# Altium integrated library Maxim Sensors.IntLib: 1171 symbols (part 19 of 61)
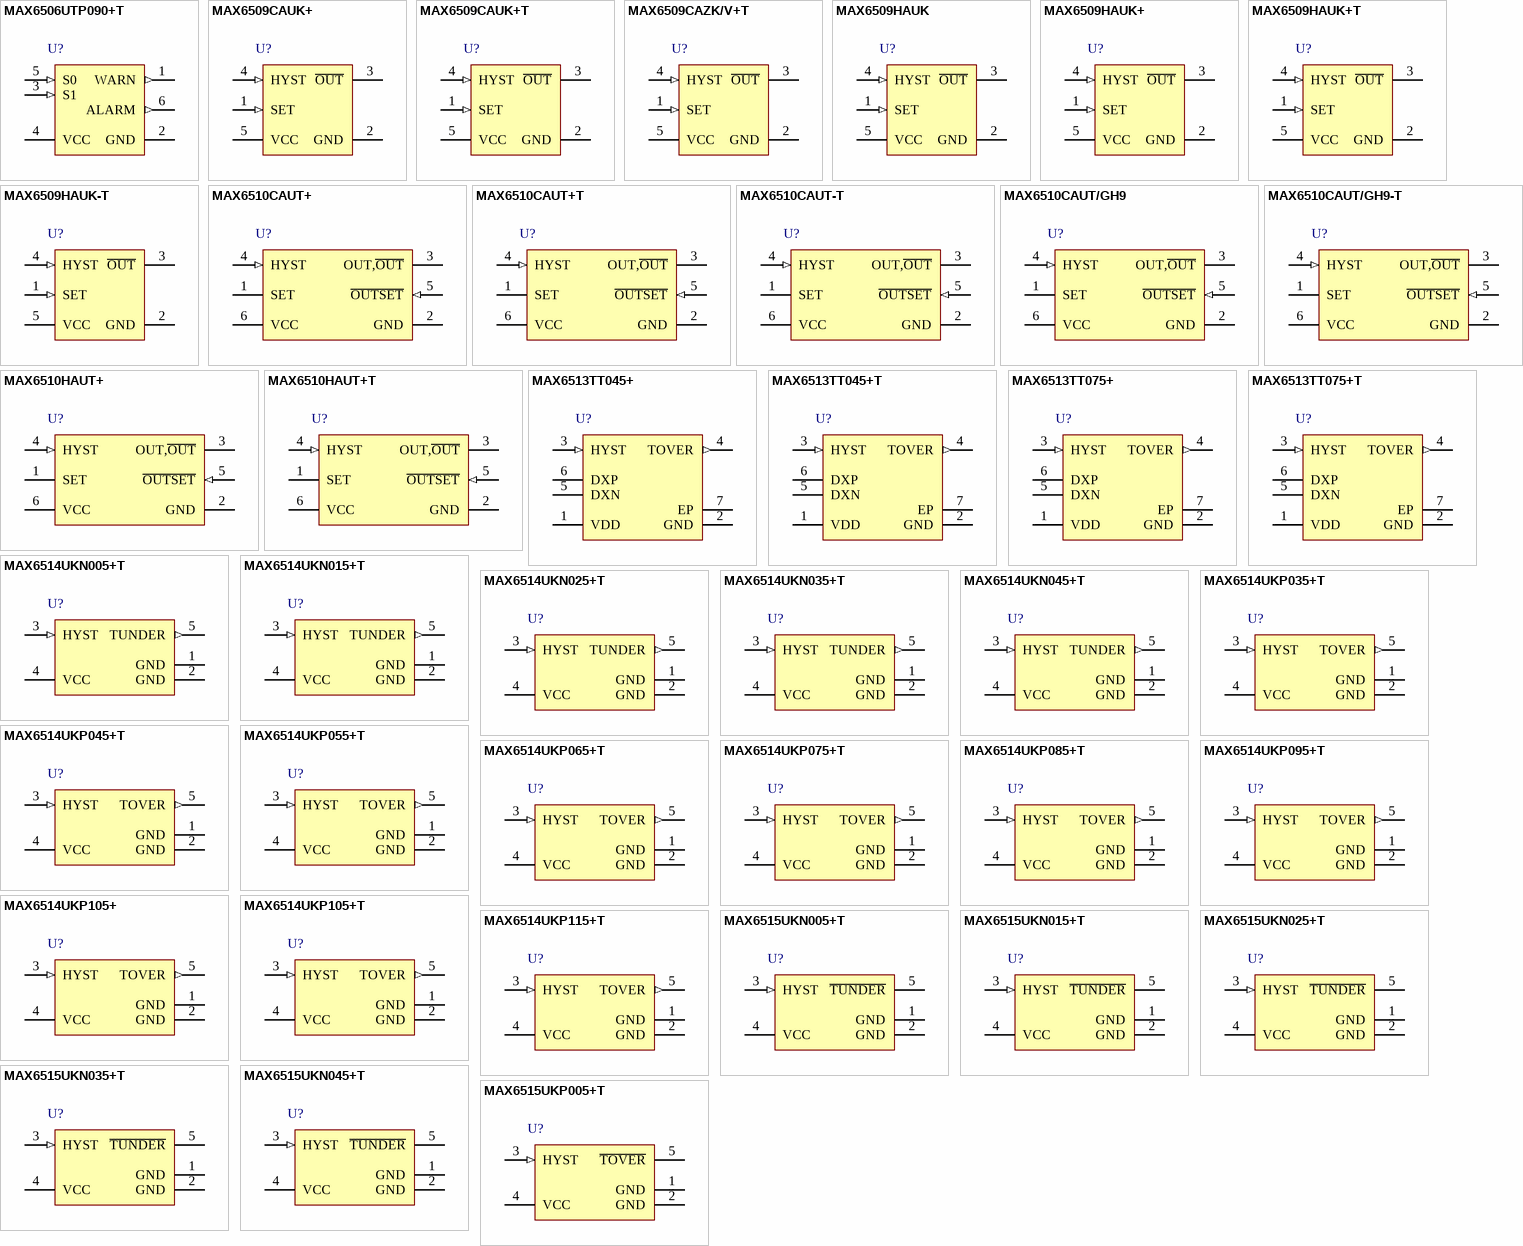
[diagram p51: symbols MAX6506UTP090+T to MAX6515UKP005+T]

## MAX6509CAUK+T
designator U?
Temperature Switch with Resistor-Programmable Threshold, -40 to 125 degC, 5-Pin SOT23 (U5+1), Pb-Free, Tape and Reel; Generic Part Number: MAX6509; PartNumber: MAX6509CAUK+T; Functions: Temperature Switch/Temperature Comparator; Interface: Logic; DatasheetVersion: Rev. 2; PackageVersion: Rev. G, 04/2011; PackageReference: U5+1; PackageDescription: 5-Pin Small-Outline Transistor Package (U5+1), Body 2.90 x 1.625 mm, Pitch 0.95 mm; Supplier 1: Digi-Key; Supplier Part Number 1: MAX6509CAUK+TTR-ND; Supplier 2: Digi-Key; Supplier Part Number 2: MAX6509CAUK+TCT-ND; Supplier 3: Digi-Key; Supplier Part Number 3: MAX6509CAUK+TDKR-ND; Supplier 4: Mouser; Supplier Part Number 4: 700-MAX6509CAUKT; Packing: Tape and Reel; Mounting Technology: Surface Mount; Code_JEDEC: MO178; ComponentLink1Description: Manufacturer URL; ComponentLink1URL: http://www.maximintegrated.com/; ComponentLink2Description: Datasheet; ComponentLink2URL: http://datasheets.maximintegrated.com/en/ds/MAX6509; ComponentLink3Description: Package Specification; ComponentLink3URL: http://pdfserv.maximintegrated.com/package_dwgs/21-0057.PDF
footprint MAXM-U5+1_N (SOT23, 5-Leads, Body 2.9x1.625mm, Pitch 0.95mm, IPC Medium Density)
footprint MAXM-U5+1_L (SOT23, 5-Leads, Body 2.9x1.625mm, Pitch 0.95mm, IPC High Density)
footprint MAXM-U5+1_M (SOT23, 5-Leads, Body 2.9x1.625mm, Pitch 0.95mm, IPC Low Density)
pins: 1 SET (in) "Temperature Set Point. Connect an external 1% resistor from SET to GND to set trip point.", 2 GND (power) "Ground", 3 ~{OUT} (hiz) "Open-Drain Output. Reset to high impedance during power-on.", 4 HYST (in) "Hysteresis Selection. Hysteresis is 10 degreesC for HYST = VCC, 2 degreesC for HYST = GND.", 5 VCC (power) "Power-Supply Input"

## MAX6509CAZK/V+T
designator U?
Temperature Switch with Resistor-Programmable Threshold, -40 to 125 degC, 5-Pin SOT23 (Z5+1), Pb-Free, Tape and Reel; Generic Part Number: MAX6509; PartNumber: MAX6509CAZK/V+T; Functions: Temperature Switch/Temperature Comparator; Interface: Logic; DatasheetVersion: Rev. 2; PackageVersion: Rev. D, 03/2010; PackageReference: Z5+1; PackageDescription: 5-Pin Thin Small-Outline Transistor, Body 1.6 x 2.9 mm, Pitch 0.95 mm; Supplier 1: Digi-Key; Supplier Part Number 1: MAX6509CAZK/V+T-ND; Supplier 2: Mouser; Supplier Part Number 2: 700-MAX6509CAZK/V+T; Packing: Tape and Reel; Mounting Technology: Surface Mount; Code_JEDEC: MO-193; ComponentLink1Description: Manufacturer URL; ComponentLink1URL: http://www.maximintegrated.com/; ComponentLink2Description: Datasheet; ComponentLink2URL: http://datasheets.maximintegrated.com/en/ds/MAX6509; ComponentLink3Description: Package Specification; ComponentLink3URL: http://pdfserv.maximintegrated.com/package_dwgs/21-0113.PDF
footprint MAXM-Z5+1_N (SOT23, 5-Leads, Body 2.9x1.6mm, Pitch 0.95mm, IPC Medium Density)
footprint MAXM-Z5+1_L (SOT23, 5-Leads, Body 2.9x1.6mm, Pitch 0.95mm, IPC High Density)
footprint MAXM-Z5+1_M (SOT23, 5-Leads, Body 2.9x1.6mm, Pitch 0.95mm, IPC Low Density)
pins: 1 SET (in) "Temperature Set Point. Connect an external 1% resistor from SET to GND to set trip point.", 2 GND (power) "Ground", 3 ~{OUT} (oc) "Open-Drain Output. Reset to high impedance during power-on.", 4 HYST (in) "Hysteresis Selection. Hysteresis is 10degreesC for HYST = VCC, 2degreesC for HYST = GND.", 5 VCC (power) "Power-Supply Input"

## MAX6509HAUK
designator U?
Temperature Switch with Resistor-Programmable Threshold, -40 to 125 degC, 5-Pin SOT23 (U5-1); Generic Part Number: MAX6509; PartNumber: MAX6509HAUK; Functions: Temperature Switch/Temperature Comparator; Interface: Logic; DatasheetVersion: Rev. 2; PackageVersion: Rev. G, 04/2011; PackageReference: U5-1; PackageDescription: 5-Pin Small-Outline Transistor Package (U5-1), Body 2.9 x 1.625 mm, Pitch 0.95 mm; Supplier 1: Mouser; Supplier Part Number 1: N/A; Mounting Technology: Surface Mount; Code_JEDEC: MO178; ComponentLink1Description: Manufacturer URL; ComponentLink1URL: http://www.maximintegrated.com/; ComponentLink2Description: Datasheet; ComponentLink2URL: http://datasheets.maximintegrated.com/en/ds/MAX6509; ComponentLink3Description: Package Specification; ComponentLink3URL: http://pdfserv.maximintegrated.com/package_dwgs/21-0057.PDF
footprint MAXM-U5-1_N (SOT23, 5-Leads, Body 2.9x1.625mm, Pitch 0.95mm, IPC Medium Density)
footprint MAXM-U5-1_L (SOT23, 5-Leads, Body 2.9x1.625mm, Pitch 0.95mm, IPC High Density)
footprint MAXM-U5-1_M (SOT23, 5-Leads, Body 2.9x1.625mm, Pitch 0.95mm, IPC Low Density)
pins: 1 SET (in) "Temperature Set Point. Connect an external 1% resistor from SET to GND to set trip point.", 2 GND (power) "Ground", 3 ~{OUT} (hiz) "Open-Drain Output. Reset to high impedance during power-on.", 4 HYST (in) "Hysteresis Selection. Hysteresis is 10 degreesC for HYST = VCC, 2 degreesC for HYST = GND.", 5 VCC (power) "Power-Supply Input"

## MAX6509HAUK+
designator U?
Temperature Switch with Resistor-Programmable Threshold, -40 to 125 degC, 5-Pin SOT23 (U5+1), Pb-Free; Generic Part Number: MAX6509; PartNumber: MAX6509HAUK+; Functions: Temperature Switch/Temperature Comparator; Interface: Logic; DatasheetVersion: Rev. 2; PackageVersion: Rev. G, 04/2011; PackageReference: U5+1; PackageDescription: 5-Pin Small-Outline Transistor Package (U5+1), Body 2.90 x 1.625 mm, Pitch 0.95 mm; Supplier 1: Mouser; Supplier Part Number 1: N/A; Mounting Technology: Surface Mount; Code_JEDEC: MO178; ComponentLink1Description: Manufacturer URL; ComponentLink1URL: http://www.maximintegrated.com/; ComponentLink2Description: Datasheet; ComponentLink2URL: http://datasheets.maximintegrated.com/en/ds/MAX6509; ComponentLink3Description: Package Specification; ComponentLink3URL: http://pdfserv.maximintegrated.com/package_dwgs/21-0057.PDF
footprint MAXM-U5+1_N (SOT23, 5-Leads, Body 2.9x1.625mm, Pitch 0.95mm, IPC Medium Density)
footprint MAXM-U5+1_L (SOT23, 5-Leads, Body 2.9x1.625mm, Pitch 0.95mm, IPC High Density)
footprint MAXM-U5+1_M (SOT23, 5-Leads, Body 2.9x1.625mm, Pitch 0.95mm, IPC Low Density)
pins: 1 SET (in) "Temperature Set Point. Connect an external 1% resistor from SET to GND to set trip point.", 2 GND (power) "Ground", 3 ~{OUT} (hiz) "Open-Drain Output. Reset to high impedance during power-on.", 4 HYST (in) "Hysteresis Selection. Hysteresis is 10 degreesC for HYST = VCC, 2 degreesC for HYST = GND.", 5 VCC (power) "Power-Supply Input"

## MAX6509HAUK+T
designator U?
Temperature Switch with Resistor-Programmable Threshold, -40 to 125 degC, 5-Pin SOT23 (U5+1), Pb-Free, Tape and Reel; Generic Part Number: MAX6509; PartNumber: MAX6509HAUK+T; Functions: Temperature Switch/Temperature Comparator; Interface: Logic; DatasheetVersion: Rev. 2; PackageVersion: Rev. G, 04/2011; PackageReference: U5+1; PackageDescription: 5-Pin Small-Outline Transistor Package (U5+1), Body 2.90 x 1.625 mm, Pitch 0.95 mm; Supplier 1: Digi-Key; Supplier Part Number 1: MAX6509HAUK+TTR-ND; Supplier 2: Digi-Key; Supplier Part Number 2: MAX6509HAUK+TCT-ND; Supplier 3: Digi-Key; Supplier Part Number 3: MAX6509HAUK+TDKR-ND; Supplier 4: Mouser; Supplier Part Number 4: 700-MAX6509HAUKT; Packing: Tape and Reel; Mounting Technology: Surface Mount; Code_JEDEC: MO178; ComponentLink1Description: Manufacturer URL; ComponentLink1URL: http://www.maximintegrated.com/; ComponentLink2Description: Datasheet; ComponentLink2URL: http://datasheets.maximintegrated.com/en/ds/MAX6509; ComponentLink3Description: Package Specification; ComponentLink3URL: http://pdfserv.maximintegrated.com/package_dwgs/21-0057.PDF
footprint MAXM-U5+1_N (SOT23, 5-Leads, Body 2.9x1.625mm, Pitch 0.95mm, IPC Medium Density)
footprint MAXM-U5+1_L (SOT23, 5-Leads, Body 2.9x1.625mm, Pitch 0.95mm, IPC High Density)
footprint MAXM-U5+1_M (SOT23, 5-Leads, Body 2.9x1.625mm, Pitch 0.95mm, IPC Low Density)
pins: 1 SET (in) "Temperature Set Point. Connect an external 1% resistor from SET to GND to set trip point.", 2 GND (power) "Ground", 3 ~{OUT} (hiz) "Open-Drain Output. Reset to high impedance during power-on.", 4 HYST (in) "Hysteresis Selection. Hysteresis is 10 degreesC for HYST = VCC, 2 degreesC for HYST = GND.", 5 VCC (power) "Power-Supply Input"

## MAX6509HAUK-T
designator U?
Temperature Switch with Resistor-Programmable Threshold, -40 to 125 degC, 5-Pin SOT23 (U5-1), Tape and Reel; Generic Part Number: MAX6509; PartNumber: MAX6509HAUK-T; Functions: Temperature Switch/Temperature Comparator; Interface: Logic; DatasheetVersion: Rev. 2; PackageVersion: Rev. G, 04/2011; PackageReference: U5-1; PackageDescription: 5-Pin Small-Outline Transistor Package (U5-1), Body 2.9 x 1.625 mm, Pitch 0.95 mm; Supplier 1: Digi-Key; Supplier Part Number 1: MAX6509HAUK-T-ND; Supplier 2: Newark; Supplier Part Number 2: 78C8049; Supplier 3: Mouser; Supplier Part Number 3: N/A; Packing: Tape and Reel; Mounting Technology: Surface Mount; Code_JEDEC: MO178; ComponentLink1Description: Manufacturer URL; ComponentLink1URL: http://www.maximintegrated.com/; ComponentLink2Description: Datasheet; ComponentLink2URL: http://datasheets.maximintegrated.com/en/ds/MAX6509; ComponentLink3Description: Package Specification; ComponentLink3URL: http://pdfserv.maximintegrated.com/package_dwgs/21-0057.PDF
footprint MAXM-U5-1_N (SOT23, 5-Leads, Body 2.9x1.625mm, Pitch 0.95mm, IPC Medium Density)
footprint MAXM-U5-1_L (SOT23, 5-Leads, Body 2.9x1.625mm, Pitch 0.95mm, IPC High Density)
footprint MAXM-U5-1_M (SOT23, 5-Leads, Body 2.9x1.625mm, Pitch 0.95mm, IPC Low Density)
pins: 1 SET (in) "Temperature Set Point. Connect an external 1% resistor from SET to GND to set trip point.", 2 GND (power) "Ground", 3 ~{OUT} (hiz) "Open-Drain Output. Reset to high impedance during power-on.", 4 HYST (in) "Hysteresis Selection. Hysteresis is 10 degreesC for HYST = VCC, 2 degreesC for HYST = GND.", 5 VCC (power) "Power-Supply Input"

## MAX6510CAUT+
designator U?
Temperature Switch with Resistor-Programmable Threshold and Pin-Selected Output, -40 to 125 degC, 6-Pin SOT23 (U6+1), Pb-Free; Generic Part Number: MAX6510; PartNumber: MAX6510CAUT+; Functions: Temperature Switch/Temperature Comparator; Interface: Logic; DatasheetVersion: Rev. 2; PackageVersion: Rev. N, 08/2012; PackageReference: U6+1; PackageDescription: 6-Pin Small-Outline Transistor Package (U6+1), Body 2.9 x 1.625 mm, Pitch 0.95 mm; Supplier 1: Mouser; Supplier Part Number 1: N/A; Mounting Technology: Surface Mount; Code_JEDEC: MO178; ComponentLink1Description: Manufacturer URL; ComponentLink1URL: http://www.maximintegrated.com/; ComponentLink2Description: Datasheet; ComponentLink2URL: http://datasheets.maximintegrated.com/en/ds/MAX6510; ComponentLink3Description: Package Specification; ComponentLink3URL: http://pdfserv.maximintegrated.com/package_dwgs/21-0058.PDF
footprint MAXM-U6+1_N (SOT23, 6-Leads, Body 2.9x1.625mm, Pitch 0.95mm, IPC Medium Density)
footprint MAXM-U6+1_L (SOT23, 6-Leads, Body 2.9x1.625mm, Pitch 0.95mm, IPC High Density)
footprint MAXM-U6+1_M (SOT23, 6-Leads, Body 2.9x1.625mm, Pitch 0.95mm, IPC Low Density)
pins: 1 SET "Temperature Set Point. Connect an external 1% resistor from SET to GND to set trip point.", 2 GND (power) "Ground", 3 OUT,~{OUT} (oc) "Open-Drain with Internal Pull-Up Resistor, Active-High, or Active-Low Output.  See Table 1. Reset to deassert during power-on.", 4 HYST (in) "Hysteresis Selection. Hysteresis is 10degreesC for HYST = VCC, 2degreesC for HYST = GND.", 5 ~{OUTSET} (in) "Trilevel Control Input:  OUTSET = VCC sets OUT to active high. OUTSET = GND sets OUT to active low.  OUTSET = Unconnected sets OUT to open drain with internal pull-up resistor.", 6 VCC (power) "Power-Supply Input"

## MAX6510CAUT+T
designator U?
Temperature Switch with Resistor-Programmable Threshold and Pin-Selected Output, -40 to 125 degC, 6-Pin SOT23 (U6+1), Pb-Free, Tape and Reel; Generic Part Number: MAX6510; PartNumber: MAX6510CAUT+T; Functions: Temperature Switch/Temperature Comparator; Interface: Logic; DatasheetVersion: Rev. 2; PackageVersion: Rev. N, 08/2012; PackageReference: U6+1; PackageDescription: 6-Pin Small-Outline Transistor Package (U6+1), Body 2.9 x 1.625 mm, Pitch 0.95 mm; Supplier 1: Digi-Key; Supplier Part Number 1: MAX6510CAUT+TTR-ND; Supplier 2: Digi-Key; Supplier Part Number 2: MAX6510CAUT+TCT-ND; Supplier 3: Digi-Key; Supplier Part Number 3: MAX6510CAUT+TDKR-ND; Supplier 4: Mouser; Supplier Part Number 4: 700-MAX6510CAUTT; Packing: Tape and Reel; Mounting Technology: Surface Mount; Code_JEDEC: MO178; ComponentLink1Description: Manufacturer URL; ComponentLink1URL: http://www.maximintegrated.com/; ComponentLink2Description: Datasheet; ComponentLink2URL: http://datasheets.maximintegrated.com/en/ds/MAX6510; ComponentLink3Description: Package Specification; ComponentLink3URL: http://pdfserv.maximintegrated.com/package_dwgs/21-0058.PDF
footprint MAXM-U6+1_N (SOT23, 6-Leads, Body 2.9x1.625mm, Pitch 0.95mm, IPC Medium Density)
footprint MAXM-U6+1_L (SOT23, 6-Leads, Body 2.9x1.625mm, Pitch 0.95mm, IPC High Density)
footprint MAXM-U6+1_M (SOT23, 6-Leads, Body 2.9x1.625mm, Pitch 0.95mm, IPC Low Density)
pins: 1 SET "Temperature Set Point. Connect an external 1% resistor from SET to GND to set trip point.", 2 GND (power) "Ground", 3 OUT,~{OUT} (oc) "Open-Drain with Internal Pull-Up Resistor, Active-High, or Active-Low Output.  See Table 1. Reset to deassert during power-on.", 4 HYST (in) "Hysteresis Selection. Hysteresis is 10degreesC for HYST = VCC, 2degreesC for HYST = GND.", 5 ~{OUTSET} (in) "Trilevel Control Input:  OUTSET = VCC sets OUT to active high. OUTSET = GND sets OUT to active low.  OUTSET = Unconnected sets OUT to open drain with internal pull-up resistor.", 6 VCC (power) "Power-Supply Input"

## MAX6510CAUT-T
designator U?
Temperature Switch with Resistor-Programmable Threshold and Pin-Selected Output, -40 to 125 degC, 6-Pin SOT23 (U6-1), Tape and Reel; Generic Part Number: MAX6510; PartNumber: MAX6510CAUT-T; Functions: Temperature Switch/Temperature Comparator; Interface: Logic; DatasheetVersion: Rev. 2; PackageVersion: Rev. N, 08/2012; PackageReference: U6-1; PackageDescription: 6-Pin Small-Outline Transistor Package (U6-1), Body 2.9 x 1.625 mm, Pitch 0.95 mm; Supplier 1: Digi-Key; Supplier Part Number 1: MAX6510CAUT-T-ND; Supplier 2: Mouser; Supplier Part Number 2: 700-MAX6510CAUT-T-NR; Packing: Tape and Reel; Mounting Technology: Surface Mount; Code_JEDEC: MO178; ComponentLink1Description: Manufacturer URL; ComponentLink1URL: http://www.maximintegrated.com/; ComponentLink2Description: Datasheet; ComponentLink2URL: http://datasheets.maximintegrated.com/en/ds/MAX6510; ComponentLink3Description: Package Specification; ComponentLink3URL: http://pdfserv.maximintegrated.com/package_dwgs/21-0058.PDF
footprint MAXM-U6-1_N (SOT23, 6-Leads, Body 2.9x1.625mm, Pitch 0.95mm, IPC Medium Density)
footprint MAXM-U6-1_L (SOT23, 6-Leads, Body 2.9x1.625mm, Pitch 0.95mm, IPC High Density)
footprint MAXM-U6-1_M (SOT23, 6-Leads, Body 2.9x1.625mm, Pitch 0.95mm, IPC Low Density)
pins: 1 SET "Temperature Set Point. Connect an external 1% resistor from SET to GND to set trip point.", 2 GND (power) "Ground", 3 OUT,~{OUT} (oc) "Open-Drain with Internal Pull-Up Resistor, Active-High, or Active-Low Output.  See Table 1. Reset to deassert during power-on.", 4 HYST (in) "Hysteresis Selection. Hysteresis is 10degreesC for HYST = VCC, 2degreesC for HYST = GND.", 5 ~{OUTSET} (in) "Trilevel Control Input:  OUTSET = VCC sets OUT to active high. OUTSET = GND sets OUT to active low.  OUTSET = Unconnected sets OUT to open drain with internal pull-up resistor.", 6 VCC (power) "Power-Supply Input"

## MAX6510CAUT/GH9
designator U?
Temperature Switch with Resistor-Programmable Threshold and Pin-Selected Output, -40 to 125 degC, 6-Pin SOT23 (U6-1); Generic Part Number: MAX6510; PartNumber: MAX6510CAUT/GH9; Functions: Temperature Switch/Temperature Comparator; Interface: Logic; DatasheetVersion: Rev. 2; PackageVersion: Rev. N, 08/2012; PackageReference: U6-1; PackageDescription: 6-Pin Small-Outline Transistor Package (U6-1), Body 2.9 x 1.625 mm, Pitch 0.95 mm; Supplier 1: Mouser; Supplier Part Number 1: N/A; Mounting Technology: Surface Mount; Code_JEDEC: MO178; ComponentLink1Description: Manufacturer URL; ComponentLink1URL: http://www.maximintegrated.com/; ComponentLink2Description: Datasheet; ComponentLink2URL: http://datasheets.maximintegrated.com/en/ds/MAX6510; ComponentLink3Description: Package Specification; ComponentLink3URL: http://pdfserv.maximintegrated.com/package_dwgs/21-0058.PDF
footprint MAXM-U6-1_N (SOT23, 6-Leads, Body 2.9x1.625mm, Pitch 0.95mm, IPC Medium Density)
footprint MAXM-U6-1_L (SOT23, 6-Leads, Body 2.9x1.625mm, Pitch 0.95mm, IPC High Density)
footprint MAXM-U6-1_M (SOT23, 6-Leads, Body 2.9x1.625mm, Pitch 0.95mm, IPC Low Density)
pins: 1 SET "Temperature Set Point. Connect an external 1% resistor from SET to GND to set trip point.", 2 GND (power) "Ground", 3 OUT,~{OUT} (oc) "Open-Drain with Internal Pull-Up Resistor, Active-High, or Active-Low Output.  See Table 1. Reset to deassert during power-on.", 4 HYST (in) "Hysteresis Selection. Hysteresis is 10degreesC for HYST = VCC, 2degreesC for HYST = GND.", 5 ~{OUTSET} (in) "Trilevel Control Input:  OUTSET = VCC sets OUT to active high. OUTSET = GND sets OUT to active low.  OUTSET = Unconnected sets OUT to open drain with internal pull-up resistor.", 6 VCC (power) "Power-Supply Input"

## MAX6510CAUT/GH9-T
designator U?
Temperature Switch with Resistor-Programmable Threshold and Pin-Selected Output, -40 to 125 degC, 6-Pin SOT23 (U6-1), Tape and Reel; Generic Part Number: MAX6510; PartNumber: MAX6510CAUT/GH9-T; Functions: Temperature Switch/Temperature Comparator; Interface: Logic; DatasheetVersion: Rev. 2; PackageVersion: Rev. N, 08/2012; PackageReference: U6-1; PackageDescription: 6-Pin Small-Outline Transistor Package (U6-1), Body 2.9 x 1.625 mm, Pitch 0.95 mm; Supplier 1: Mouser; Supplier Part Number 1: N/A; Packing: Tape and Reel; Mounting Technology: Surface Mount; Code_JEDEC: MO178; ComponentLink1Description: Manufacturer URL; ComponentLink1URL: http://www.maximintegrated.com/; ComponentLink2Description: Datasheet; ComponentLink2URL: http://datasheets.maximintegrated.com/en/ds/MAX6510; ComponentLink3Description: Package Specification; ComponentLink3URL: http://pdfserv.maximintegrated.com/package_dwgs/21-0058.PDF
footprint MAXM-U6-1_N (SOT23, 6-Leads, Body 2.9x1.625mm, Pitch 0.95mm, IPC Medium Density)
footprint MAXM-U6-1_L (SOT23, 6-Leads, Body 2.9x1.625mm, Pitch 0.95mm, IPC High Density)
footprint MAXM-U6-1_M (SOT23, 6-Leads, Body 2.9x1.625mm, Pitch 0.95mm, IPC Low Density)
pins: 1 SET "Temperature Set Point. Connect an external 1% resistor from SET to GND to set trip point.", 2 GND (power) "Ground", 3 OUT,~{OUT} (oc) "Open-Drain with Internal Pull-Up Resistor, Active-High, or Active-Low Output.  See Table 1. Reset to deassert during power-on.", 4 HYST (in) "Hysteresis Selection. Hysteresis is 10degreesC for HYST = VCC, 2degreesC for HYST = GND.", 5 ~{OUTSET} (in) "Trilevel Control Input:  OUTSET = VCC sets OUT to active high. OUTSET = GND sets OUT to active low.  OUTSET = Unconnected sets OUT to open drain with internal pull-up resistor.", 6 VCC (power) "Power-Supply Input"

## MAX6510HAUT+
designator U?
Temperature Switch with Resistor-Programmable Threshold and Pin-Selected Output, -40 to 125 degC, 6-Pin SOT23 (U6+1), Pb-Free; Generic Part Number: MAX6510; PartNumber: MAX6510HAUT+; Functions: Temperature Switch/Temperature Comparator; Interface: Logic; DatasheetVersion: Rev. 2; PackageVersion: Rev. N, 08/2012; PackageReference: U6+1; PackageDescription: 6-Pin Small-Outline Transistor Package (U6+1), Body 2.9 x 1.625 mm, Pitch 0.95 mm; Supplier 1: Mouser; Supplier Part Number 1: N/A; Mounting Technology: Surface Mount; Code_JEDEC: MO178; ComponentLink1Description: Manufacturer URL; ComponentLink1URL: http://www.maximintegrated.com/; ComponentLink2Description: Datasheet; ComponentLink2URL: http://datasheets.maximintegrated.com/en/ds/MAX6510; ComponentLink3Description: Package Specification; ComponentLink3URL: http://pdfserv.maximintegrated.com/package_dwgs/21-0058.PDF
footprint MAXM-U6+1_N (SOT23, 6-Leads, Body 2.9x1.625mm, Pitch 0.95mm, IPC Medium Density)
footprint MAXM-U6+1_L (SOT23, 6-Leads, Body 2.9x1.625mm, Pitch 0.95mm, IPC High Density)
footprint MAXM-U6+1_M (SOT23, 6-Leads, Body 2.9x1.625mm, Pitch 0.95mm, IPC Low Density)
pins: 1 SET "Temperature Set Point. Connect an external 1% resistor from SET to GND to set trip point.", 2 GND (power) "Ground", 3 OUT,~{OUT} (oc) "Open-Drain with Internal Pull-Up Resistor, Active-High, or Active-Low Output.  See Table 1. Reset to deassert during power-on.", 4 HYST (in) "Hysteresis Selection. Hysteresis is 10degreesC for HYST = VCC, 2degreesC for HYST = GND.", 5 ~{OUTSET} (in) "Trilevel Control Input:  OUTSET = VCC sets OUT to active high. OUTSET = GND sets OUT to active low.  OUTSET = Unconnected sets OUT to open drain with internal pull-up resistor.", 6 VCC (power) "Power-Supply Input"

## MAX6510HAUT+T
designator U?
Temperature Switch with Resistor-Programmable Threshold and Pin-Selected Output, -40 to 125 degC, 6-Pin SOT23 (U6+1), Pb-Free, Tape and Reel; Generic Part Number: MAX6510; PartNumber: MAX6510HAUT+T; Functions: Temperature Switch/Temperature Comparator; Interface: Logic; DatasheetVersion: Rev. 2; PackageVersion: Rev. N, 08/2012; PackageReference: U6+1; PackageDescription: 6-Pin Small-Outline Transistor Package (U6+1), Body 2.9 x 1.625 mm, Pitch 0.95 mm; Supplier 1: Digi-Key; Supplier Part Number 1: MAX6510HAUT+TTR-ND; Supplier 2: Digi-Key; Supplier Part Number 2: MAX6510HAUT+TCT-ND; Supplier 3: Digi-Key; Supplier Part Number 3: MAX6510HAUT+TDKR-ND; Supplier 4: Mouser; Supplier Part Number 4: 700-MAX6510HAUTT; Packing: Tape and Reel; Mounting Technology: Surface Mount; Code_JEDEC: MO178; ComponentLink1Description: Manufacturer URL; ComponentLink1URL: http://www.maximintegrated.com/; ComponentLink2Description: Datasheet; ComponentLink2URL: http://datasheets.maximintegrated.com/en/ds/MAX6510; ComponentLink3Description: Package Specification; ComponentLink3URL: http://pdfserv.maximintegrated.com/package_dwgs/21-0058.PDF
footprint MAXM-U6+1_N (SOT23, 6-Leads, Body 2.9x1.625mm, Pitch 0.95mm, IPC Medium Density)
footprint MAXM-U6+1_L (SOT23, 6-Leads, Body 2.9x1.625mm, Pitch 0.95mm, IPC High Density)
footprint MAXM-U6+1_M (SOT23, 6-Leads, Body 2.9x1.625mm, Pitch 0.95mm, IPC Low Density)
pins: 1 SET "Temperature Set Point. Connect an external 1% resistor from SET to GND to set trip point.", 2 GND (power) "Ground", 3 OUT,~{OUT} (oc) "Open-Drain with Internal Pull-Up Resistor, Active-High, or Active-Low Output.  See Table 1. Reset to deassert during power-on.", 4 HYST (in) "Hysteresis Selection. Hysteresis is 10degreesC for HYST = VCC, 2degreesC for HYST = GND.", 5 ~{OUTSET} (in) "Trilevel Control Input:  OUTSET = VCC sets OUT to active high. OUTSET = GND sets OUT to active low.  OUTSET = Unconnected sets OUT to open drain with internal pull-up resistor.", 6 VCC (power) "Power-Supply Input"

## MAX6513TT045+
designator U?
Low-Cost, Remote Temperature Switch, -40 to 85 degC, 6-Pin SON (T633+2), Pb-Free; Generic Part Number: MAX6513; PartNumber: MAX6513TT045+; Functions: Temperature Switch/Temperature Comparator; Interface: Logic; DatasheetVersion: Rev. 3; PackageVersion: Rev. J, 08/2009; PackageReference: T633+2; PackageDescription: 6-Pin Plastic Very Very Thin Dual Flatpack No Leads, Exposed Pad, Body 3 x 3 mm, Exposed Pad 2.3 x 1.5 mm, Pitch 0.95 mm; Supplier 1: Mouser; Supplier Part Number 1: N/A; Mounting Technology: Surface Mount; Code_JEDEC: MO-229; ComponentLink1Description: Manufacturer URL; ComponentLink1URL: http://www.maximintegrated.com/; ComponentLink2Description: Datasheet; ComponentLink2URL: http://datasheets.maximintegrated.com/en/ds/MAX6513; ComponentLink3Description: Package Specification; ComponentLink3URL: http://pdfserv.maximintegrated.com/package_dwgs/21-0137.PDF
footprint MAXM-T633+2_V (SON, 6-Leads, Body 3x3mm, Pitch 0.95mm, Thermal Pad 2.3X1.5mm)
pins: 1 VDD (power) "Power-Supply Input, +3.0V to +5.5V. Bypass VDD to GND with a 0.1uF capacitor.", 2 GND (power) "Ground", 3 HYST (in) "Hysteresis Selection. Hysteresis is 10degreesC for HYST = VDD, 5 degreesC for HYST = GND.", 4 TOVER (out) "CMOS Active-High Output. TOVER goes high when the temperature exceeds the factoryprogrammed temperature threshold.", 5 DXN "This pin connects to the negative (cathode) terminal of the external P-N sense junction. DXN must be connected to GND.", 6 DXP "This pin connects to the positive (anode) terminal of the external P-N sense junction.", 7 EP "Exposed Pad. Not internally connected. Connect to GND or leave unconnected."

## MAX6513TT045+T
designator U?
Low-Cost, Remote Temperature Switch, -40 to 85 degC, 6-Pin SON (T633+2), Pb-Free, Tape and Reel; Generic Part Number: MAX6513; PartNumber: MAX6513TT045+T; Functions: Temperature Switch/Temperature Comparator; Interface: Logic; DatasheetVersion: Rev. 3; PackageVersion: Rev. J, 08/2009; PackageReference: T633+2; PackageDescription: 6-Pin Plastic Very Very Thin Dual Flatpack No Leads, Exposed Pad, Body 3 x 3 mm, Exposed Pad 2.3 x 1.5 mm, Pitch 0.95 mm; Supplier 1: Digi-Key; Supplier Part Number 1: MAX6513TT045+T-ND; Supplier 2: Mouser; Supplier Part Number 2: 700-MAX6513TT045T; Packing: Tape and Reel; Mounting Technology: Surface Mount; Code_JEDEC: MO-229; ComponentLink1Description: Manufacturer URL; ComponentLink1URL: http://www.maximintegrated.com/; ComponentLink2Description: Datasheet; ComponentLink2URL: http://datasheets.maximintegrated.com/en/ds/MAX6513; ComponentLink3Description: Package Specification; ComponentLink3URL: http://pdfserv.maximintegrated.com/package_dwgs/21-0137.PDF
footprint MAXM-T633+2_V (SON, 6-Leads, Body 3x3mm, Pitch 0.95mm, Thermal Pad 2.3X1.5mm)
pins: 1 VDD (power) "Power-Supply Input, +3.0V to +5.5V. Bypass VDD to GND with a 0.1uF capacitor.", 2 GND (power) "Ground", 3 HYST (in) "Hysteresis Selection. Hysteresis is 10degreesC for HYST = VDD, 5 degreesC for HYST = GND.", 4 TOVER (out) "CMOS Active-High Output. TOVER goes high when the temperature exceeds the factoryprogrammed temperature threshold.", 5 DXN "This pin connects to the negative (cathode) terminal of the external P-N sense junction. DXN must be connected to GND.", 6 DXP "This pin connects to the positive (anode) terminal of the external P-N sense junction.", 7 EP "Exposed Pad. Not internally connected. Connect to GND or leave unconnected."

## MAX6513TT075+
designator U?
Low-Cost, Remote Temperature Switch, -40 to 85 degC, 6-Pin SON (T633+2), Pb-Free; Generic Part Number: MAX6513; PartNumber: MAX6513TT075+; Functions: Temperature Switch/Temperature Comparator; Interface: Logic; DatasheetVersion: Rev. 3; PackageVersion: Rev. J, 08/2009; PackageReference: T633+2; PackageDescription: 6-Pin Plastic Very Very Thin Dual Flatpack No Leads, Exposed Pad, Body 3 x 3 mm, Exposed Pad 2.3 x 1.5 mm, Pitch 0.95 mm; Supplier 1: Mouser; Supplier Part Number 1: N/A; Mounting Technology: Surface Mount; Code_JEDEC: MO-229; ComponentLink1Description: Manufacturer URL; ComponentLink1URL: http://www.maximintegrated.com/; ComponentLink2Description: Datasheet; ComponentLink2URL: http://datasheets.maximintegrated.com/en/ds/MAX6513; ComponentLink3Description: Package Specification; ComponentLink3URL: http://pdfserv.maximintegrated.com/package_dwgs/21-0137.PDF
footprint MAXM-T633+2_V (SON, 6-Leads, Body 3x3mm, Pitch 0.95mm, Thermal Pad 2.3X1.5mm)
pins: 1 VDD (power) "Power-Supply Input, +3.0V to +5.5V. Bypass VDD to GND with a 0.1uF capacitor.", 2 GND (power) "Ground", 3 HYST (in) "Hysteresis Selection. Hysteresis is 10degreesC for HYST = VDD, 5 degreesC for HYST = GND.", 4 TOVER (out) "CMOS Active-High Output. TOVER goes high when the temperature exceeds the factoryprogrammed temperature threshold.", 5 DXN "This pin connects to the negative (cathode) terminal of the external P-N sense junction. DXN must be connected to GND.", 6 DXP "This pin connects to the positive (anode) terminal of the external P-N sense junction.", 7 EP "Exposed Pad. Not internally connected. Connect to GND or leave unconnected."

## MAX6513TT075+T
designator U?
Low-Cost, Remote Temperature Switch, -40 to 85 degC, 6-Pin SON (T633+2), Pb-Free, Tape and Reel; Generic Part Number: MAX6513; PartNumber: MAX6513TT075+T; Functions: Temperature Switch/Temperature Comparator; Interface: Logic; DatasheetVersion: Rev. 3; PackageVersion: Rev. J, 08/2009; PackageReference: T633+2; PackageDescription: 6-Pin Plastic Very Very Thin Dual Flatpack No Leads, Exposed Pad, Body 3 x 3 mm, Exposed Pad 2.3 x 1.5 mm, Pitch 0.95 mm; Supplier 1: Digi-Key; Supplier Part Number 1: MAX6513TT075+TTR-ND; Supplier 2: Digi-Key; Supplier Part Number 2: MAX6513TT075+TCT-ND; Supplier 3: Digi-Key; Supplier Part Number 3: MAX6513TT075+TDKR-ND; Supplier 4: Mouser; Supplier Part Number 4: 700-MAX6513TT075T; Packing: Tape and Reel; Mounting Technology: Surface Mount; Code_JEDEC: MO-229; ComponentLink1Description: Manufacturer URL; ComponentLink1URL: http://www.maximintegrated.com/; ComponentLink2Description: Datasheet; ComponentLink2URL: http://datasheets.maximintegrated.com/en/ds/MAX6513; ComponentLink3Description: Package Specification; ComponentLink3URL: http://pdfserv.maximintegrated.com/package_dwgs/21-0137.PDF
footprint MAXM-T633+2_V (SON, 6-Leads, Body 3x3mm, Pitch 0.95mm, Thermal Pad 2.3X1.5mm)
pins: 1 VDD (power) "Power-Supply Input, +3.0V to +5.5V. Bypass VDD to GND with a 0.1uF capacitor.", 2 GND (power) "Ground", 3 HYST (in) "Hysteresis Selection. Hysteresis is 10degreesC for HYST = VDD, 5 degreesC for HYST = GND.", 4 TOVER (out) "CMOS Active-High Output. TOVER goes high when the temperature exceeds the factoryprogrammed temperature threshold.", 5 DXN "This pin connects to the negative (cathode) terminal of the external P-N sense junction. DXN must be connected to GND.", 6 DXP "This pin connects to the positive (anode) terminal of the external P-N sense junction.", 7 EP "Exposed Pad. Not internally connected. Connect to GND or leave unconnected."

## MAX6514UKN005+T
designator U?
Low-Cost, 2.7 to 5.5 V Temperature Switch, -55 to 125 degC, 5-Pin SOT23 (U5+2), Pb-Free, Tape and Reel; Generic Part Number: MAX6514; PartNumber: MAX6514UKN005+T; Functions: Temperature Switch/Temperature Comparator; Interface: Logic; DatasheetVersion: Rev. 1; PackageVersion: Rev. G, 04/2011; PackageReference: U5+2; PackageDescription: 5-Pin Small-Outline Transistor Package, Body 1.625 x 2.9 mm, Pitch 0.95 mm; Supplier 1: Mouser; Supplier Part Number 1: N/A; Packing: Tape and Reel; Mounting Technology: Surface Mount; Code_JEDEC: MO178; ComponentLink1Description: Manufacturer URL; ComponentLink1URL: http://www.maximintegrated.com/; ComponentLink2Description: Datasheet; ComponentLink2URL: http://datasheets.maximintegrated.com/en/ds/MAX6514-MAX6515.pdf; ComponentLink3Description: Package Specification; ComponentLink3URL: http://pdfserv.maximintegrated.com/package_dwgs/21-0057.PDF
footprint MAXM-U5+2_N (SOT23, 5-Leads, Body 2.9x1.625mm, Pitch 0.95mm, IPC Medium Density)
footprint MAXM-U5+2_L (SOT23, 5-Leads, Body 2.9x1.625mm, Pitch 0.95mm, IPC High Density)
footprint MAXM-U5+2_M (SOT23, 5-Leads, Body 2.9x1.625mm, Pitch 0.95mm, IPC Low Density)
pins: 1 GND (power) "Ground", 2 GND (power) "Ground", 3 HYST (in) "Hysteresis Input. Connect to VCC for 2degreesC of hysteresis or to GND for 10degreesC hysteresis.", 4 VCC (power) "Input Supply. Bypass to ground with a 0.1uF capacitor.", 5 TUNDER (out) "Push-Pull Active-High Output (Cold Threshold). TUNDER goes high when the die temperature falls below the factory-programmed cold-temperature threshold"

## MAX6514UKN015+T
designator U?
Low-Cost, 2.7 to 5.5 V Temperature Switch, -55 to 125 degC, 5-Pin SOT23 (U5+2), Pb-Free, Tape and Reel; Generic Part Number: MAX6514; PartNumber: MAX6514UKN015+T; Functions: Temperature Switch/Temperature Comparator; Interface: Logic; DatasheetVersion: Rev. 1; PackageVersion: Rev. G, 04/2011; PackageReference: U5+2; PackageDescription: 5-Pin Small-Outline Transistor Package, Body 1.625 x 2.9 mm, Pitch 0.95 mm; Supplier 1: Mouser; Supplier Part Number 1: N/A; Packing: Tape and Reel; Mounting Technology: Surface Mount; Code_JEDEC: MO178; ComponentLink1Description: Manufacturer URL; ComponentLink1URL: http://www.maximintegrated.com/; ComponentLink2Description: Datasheet; ComponentLink2URL: http://datasheets.maximintegrated.com/en/ds/MAX6514-MAX6515.pdf; ComponentLink3Description: Package Specification; ComponentLink3URL: http://pdfserv.maximintegrated.com/package_dwgs/21-0057.PDF
footprint MAXM-U5+2_N (SOT23, 5-Leads, Body 2.9x1.625mm, Pitch 0.95mm, IPC Medium Density)
footprint MAXM-U5+2_L (SOT23, 5-Leads, Body 2.9x1.625mm, Pitch 0.95mm, IPC High Density)
footprint MAXM-U5+2_M (SOT23, 5-Leads, Body 2.9x1.625mm, Pitch 0.95mm, IPC Low Density)
pins: 1 GND (power) "Ground", 2 GND (power) "Ground", 3 HYST (in) "Hysteresis Input. Connect to VCC for 2degreesC of hysteresis or to GND for 10degreesC hysteresis.", 4 VCC (power) "Input Supply. Bypass to ground with a 0.1uF capacitor.", 5 TUNDER (out) "Push-Pull Active-High Output (Cold Threshold). TUNDER goes high when the die temperature falls below the factory-programmed cold-temperature threshold"

## MAX6514UKN025+T
designator U?
Low-Cost, 2.7 to 5.5 V Temperature Switch, -55 to 125 degC, 5-Pin SOT23 (U5+2), Pb-Free, Tape and Reel; Generic Part Number: MAX6514; PartNumber: MAX6514UKN025+T; Functions: Temperature Switch/Temperature Comparator; Interface: Logic; DatasheetVersion: Rev. 1; PackageVersion: Rev. G, 04/2011; PackageReference: U5+2; PackageDescription: 5-Pin Small-Outline Transistor Package, Body 1.625 x 2.9 mm, Pitch 0.95 mm; Supplier 1: Mouser; Supplier Part Number 1: N/A; Packing: Tape and Reel; Mounting Technology: Surface Mount; Code_JEDEC: MO178; ComponentLink1Description: Manufacturer URL; ComponentLink1URL: http://www.maximintegrated.com/; ComponentLink2Description: Datasheet; ComponentLink2URL: http://datasheets.maximintegrated.com/en/ds/MAX6514-MAX6515.pdf; ComponentLink3Description: Package Specification; ComponentLink3URL: http://pdfserv.maximintegrated.com/package_dwgs/21-0057.PDF
footprint MAXM-U5+2_N (SOT23, 5-Leads, Body 2.9x1.625mm, Pitch 0.95mm, IPC Medium Density)
footprint MAXM-U5+2_L (SOT23, 5-Leads, Body 2.9x1.625mm, Pitch 0.95mm, IPC High Density)
footprint MAXM-U5+2_M (SOT23, 5-Leads, Body 2.9x1.625mm, Pitch 0.95mm, IPC Low Density)
pins: 1 GND (power) "Ground", 2 GND (power) "Ground", 3 HYST (in) "Hysteresis Input. Connect to VCC for 2degreesC of hysteresis or to GND for 10degreesC hysteresis.", 4 VCC (power) "Input Supply. Bypass to ground with a 0.1uF capacitor.", 5 TUNDER (out) "Push-Pull Active-High Output (Cold Threshold). TUNDER goes high when the die temperature falls below the factory-programmed cold-temperature threshold"

## MAX6514UKN035+T
designator U?
Low-Cost, 2.7 to 5.5 V Temperature Switch, -55 to 125 degC, 5-Pin SOT23 (U5+2), Pb-Free, Tape and Reel; Generic Part Number: MAX6514; PartNumber: MAX6514UKN035+T; Functions: Temperature Switch/Temperature Comparator; Interface: Logic; DatasheetVersion: Rev. 1; PackageVersion: Rev. G, 04/2011; PackageReference: U5+2; PackageDescription: 5-Pin Small-Outline Transistor Package, Body 1.625 x 2.9 mm, Pitch 0.95 mm; Supplier 1: Mouser; Supplier Part Number 1: N/A; Packing: Tape and Reel; Mounting Technology: Surface Mount; Code_JEDEC: MO178; ComponentLink1Description: Manufacturer URL; ComponentLink1URL: http://www.maximintegrated.com/; ComponentLink2Description: Datasheet; ComponentLink2URL: http://datasheets.maximintegrated.com/en/ds/MAX6514-MAX6515.pdf; ComponentLink3Description: Package Specification; ComponentLink3URL: http://pdfserv.maximintegrated.com/package_dwgs/21-0057.PDF
footprint MAXM-U5+2_N (SOT23, 5-Leads, Body 2.9x1.625mm, Pitch 0.95mm, IPC Medium Density)
footprint MAXM-U5+2_L (SOT23, 5-Leads, Body 2.9x1.625mm, Pitch 0.95mm, IPC High Density)
footprint MAXM-U5+2_M (SOT23, 5-Leads, Body 2.9x1.625mm, Pitch 0.95mm, IPC Low Density)
pins: 1 GND (power) "Ground", 2 GND (power) "Ground", 3 HYST (in) "Hysteresis Input. Connect to VCC for 2degreesC of hysteresis or to GND for 10degreesC hysteresis.", 4 VCC (power) "Input Supply. Bypass to ground with a 0.1uF capacitor.", 5 TUNDER (out) "Push-Pull Active-High Output (Cold Threshold). TUNDER goes high when the die temperature falls below the factory-programmed cold-temperature threshold"

## MAX6514UKN045+T
designator U?
Low-Cost, 2.7 to 5.5 V Temperature Switch, -55 to 125 degC, 5-Pin SOT23 (U5+2), Pb-Free, Tape and Reel; Generic Part Number: MAX6514; PartNumber: MAX6514UKN045+T; Functions: Temperature Switch/Temperature Comparator; Interface: Logic; DatasheetVersion: Rev. 1; PackageVersion: Rev. G, 04/2011; PackageReference: U5+2; PackageDescription: 5-Pin Small-Outline Transistor Package, Body 1.625 x 2.9 mm, Pitch 0.95 mm; Supplier 1: Mouser; Supplier Part Number 1: N/A; Packing: Tape and Reel; Mounting Technology: Surface Mount; Code_JEDEC: MO178; ComponentLink1Description: Manufacturer URL; ComponentLink1URL: http://www.maximintegrated.com/; ComponentLink2Description: Datasheet; ComponentLink2URL: http://datasheets.maximintegrated.com/en/ds/MAX6514-MAX6515.pdf; ComponentLink3Description: Package Specification; ComponentLink3URL: http://pdfserv.maximintegrated.com/package_dwgs/21-0057.PDF
footprint MAXM-U5+2_N (SOT23, 5-Leads, Body 2.9x1.625mm, Pitch 0.95mm, IPC Medium Density)
footprint MAXM-U5+2_L (SOT23, 5-Leads, Body 2.9x1.625mm, Pitch 0.95mm, IPC High Density)
footprint MAXM-U5+2_M (SOT23, 5-Leads, Body 2.9x1.625mm, Pitch 0.95mm, IPC Low Density)
pins: 1 GND (power) "Ground", 2 GND (power) "Ground", 3 HYST (in) "Hysteresis Input. Connect to VCC for 2degreesC of hysteresis or to GND for 10degreesC hysteresis.", 4 VCC (power) "Input Supply. Bypass to ground with a 0.1uF capacitor.", 5 TUNDER (out) "Push-Pull Active-High Output (Cold Threshold). TUNDER goes high when the die temperature falls below the factory-programmed cold-temperature threshold"

## MAX6514UKP035+T
designator U?
Low-Cost, 2.7 to 5.5 V Temperature Switch, -55 to 125 degC, 5-Pin SOT23 (U5+2), Pb-Free, Tape and Reel; Generic Part Number: MAX6514; PartNumber: MAX6514UKP035+T; Functions: Temperature Switch/Temperature Comparator; Interface: Logic; DatasheetVersion: Rev. 1; PackageVersion: Rev. G, 04/2011; PackageReference: U5+2; PackageDescription: 5-Pin Small-Outline Transistor Package, Body 1.625 x 2.9 mm, Pitch 0.95 mm; Supplier 1: Digi-Key; Supplier Part Number 1: MAX6514UKP035+T-ND; Supplier 2: Mouser; Supplier Part Number 2: 700-MAX6514UKP035T; Packing: Tape and Reel; Mounting Technology: Surface Mount; Code_JEDEC: MO178; ComponentLink1Description: Manufacturer URL; ComponentLink1URL: http://www.maximintegrated.com/; ComponentLink2Description: Datasheet; ComponentLink2URL: http://datasheets.maximintegrated.com/en/ds/MAX6514-MAX6515.pdf; ComponentLink3Description: Package Specification; ComponentLink3URL: http://pdfserv.maximintegrated.com/package_dwgs/21-0057.PDF
footprint MAXM-U5+2_N (SOT23, 5-Leads, Body 2.9x1.625mm, Pitch 0.95mm, IPC Medium Density)
footprint MAXM-U5+2_L (SOT23, 5-Leads, Body 2.9x1.625mm, Pitch 0.95mm, IPC High Density)
footprint MAXM-U5+2_M (SOT23, 5-Leads, Body 2.9x1.625mm, Pitch 0.95mm, IPC Low Density)
pins: 1 GND (power) "Ground", 2 GND (power) "Ground", 3 HYST (in) "Hysteresis Input. Connect to VCC for 2degreesC of hysteresis or to GND for 10degreesC hysteresis.", 4 VCC (power) "Input Supply. Bypass to ground with a 0.1uF capacitor.", 5 TOVER (out) "Push-Pull Active-High Output (Hot Threshold). TOVER goes high when the die temperature exceeds the factory-programmed hot-temperature threshold."

## MAX6514UKP045+T
designator U?
Low-Cost, 2.7 to 5.5 V Temperature Switch, -55 to 125 degC, 5-Pin SOT23 (U5+2), Pb-Free, Tape and Reel; Generic Part Number: MAX6514; PartNumber: MAX6514UKP045+T; Functions: Temperature Switch/Temperature Comparator; Interface: Logic; DatasheetVersion: Rev. 1; PackageVersion: Rev. G, 04/2011; PackageReference: U5+2; PackageDescription: 5-Pin Small-Outline Transistor Package, Body 1.625 x 2.9 mm, Pitch 0.95 mm; Supplier 1: Digi-Key; Supplier Part Number 1: MAX6514UKP045+T-ND; Supplier 2: Mouser; Supplier Part Number 2: 700-MAX6514UKP045T; Packing: Tape and Reel; Mounting Technology: Surface Mount; Code_JEDEC: MO178; ComponentLink1Description: Manufacturer URL; ComponentLink1URL: http://www.maximintegrated.com/; ComponentLink2Description: Datasheet; ComponentLink2URL: http://datasheets.maximintegrated.com/en/ds/MAX6514-MAX6515.pdf; ComponentLink3Description: Package Specification; ComponentLink3URL: http://pdfserv.maximintegrated.com/package_dwgs/21-0057.PDF
footprint MAXM-U5+2_N (SOT23, 5-Leads, Body 2.9x1.625mm, Pitch 0.95mm, IPC Medium Density)
footprint MAXM-U5+2_L (SOT23, 5-Leads, Body 2.9x1.625mm, Pitch 0.95mm, IPC High Density)
footprint MAXM-U5+2_M (SOT23, 5-Leads, Body 2.9x1.625mm, Pitch 0.95mm, IPC Low Density)
pins: 1 GND (power) "Ground", 2 GND (power) "Ground", 3 HYST (in) "Hysteresis Input. Connect to VCC for 2degreesC of hysteresis or to GND for 10degreesC hysteresis.", 4 VCC (power) "Input Supply. Bypass to ground with a 0.1uF capacitor.", 5 TOVER (out) "Push-Pull Active-High Output (Hot Threshold). TOVER goes high when the die temperature exceeds the factory-programmed hot-temperature threshold."

## MAX6514UKP055+T
designator U?
Low-Cost, 2.7 to 5.5 V Temperature Switch, -55 to 125 degC, 5-Pin SOT23 (U5+2), Pb-Free, Tape and Reel; Generic Part Number: MAX6514; PartNumber: MAX6514UKP055+T; Functions: Temperature Switch/Temperature Comparator; Interface: Logic; DatasheetVersion: Rev. 1; PackageVersion: Rev. G, 04/2011; PackageReference: U5+2; PackageDescription: 5-Pin Small-Outline Transistor Package, Body 1.625 x 2.9 mm, Pitch 0.95 mm; Supplier 1: Digi-Key; Supplier Part Number 1: MAX6514UKP055+T-ND; Supplier 2: Mouser; Supplier Part Number 2: 700-MAX6514UKP055T; Packing: Tape and Reel; Mounting Technology: Surface Mount; Code_JEDEC: MO178; ComponentLink1Description: Manufacturer URL; ComponentLink1URL: http://www.maximintegrated.com/; ComponentLink2Description: Datasheet; ComponentLink2URL: http://datasheets.maximintegrated.com/en/ds/MAX6514-MAX6515.pdf; ComponentLink3Description: Package Specification; ComponentLink3URL: http://pdfserv.maximintegrated.com/package_dwgs/21-0057.PDF
footprint MAXM-U5+2_N (SOT23, 5-Leads, Body 2.9x1.625mm, Pitch 0.95mm, IPC Medium Density)
footprint MAXM-U5+2_L (SOT23, 5-Leads, Body 2.9x1.625mm, Pitch 0.95mm, IPC High Density)
footprint MAXM-U5+2_M (SOT23, 5-Leads, Body 2.9x1.625mm, Pitch 0.95mm, IPC Low Density)
pins: 1 GND (power) "Ground", 2 GND (power) "Ground", 3 HYST (in) "Hysteresis Input. Connect to VCC for 2degreesC of hysteresis or to GND for 10degreesC hysteresis.", 4 VCC (power) "Input Supply. Bypass to ground with a 0.1uF capacitor.", 5 TOVER (out) "Push-Pull Active-High Output (Hot Threshold). TOVER goes high when the die temperature exceeds the factory-programmed hot-temperature threshold."

## MAX6514UKP065+T
designator U?
Low-Cost, 2.7 to 5.5V Temperature Switch, -55 to 125 degC, 5-Pin SOT23 (U5+2), Pb-Free, Tape and Reel; Generic Part Number: MAX6514; PartNumber: MAX6514UKP065+T; Functions: Temperature Switch/Temperature Comparator; Interface: Logic; DatasheetVersion: Rev. 1; PackageVersion: Rev. G, 04/2011; PackageReference: U5+2; PackageDescription: 5-Pin Small-Outline Transistor Package, Body 1.625 x 2.9 mm, Pitch 0.95 mm; Supplier 1: Digi-Key; Supplier Part Number 1: MAX6514UKP065+T-ND; Supplier 2: Mouser; Supplier Part Number 2: 700-MAX6514UKP065T; Packing: Tape and Reel; Mounting Technology: Surface Mount; Code_JEDEC: MO178; ComponentLink1Description: Manufacturer URL; ComponentLink1URL: http://www.maximintegrated.com/; ComponentLink2Description: Datasheet; ComponentLink2URL: http://datasheets.maximintegrated.com/en/ds/MAX6514-MAX6515.pdf; ComponentLink3Description: Package Specification; ComponentLink3URL: http://pdfserv.maximintegrated.com/package_dwgs/21-0057.PDF
footprint MAXM-U5+2_N (SOT23, 5-Leads, Body 2.9x1.625mm, Pitch 0.95mm, IPC Medium Density)
footprint MAXM-U5+2_L (SOT23, 5-Leads, Body 2.9x1.625mm, Pitch 0.95mm, IPC High Density)
footprint MAXM-U5+2_M (SOT23, 5-Leads, Body 2.9x1.625mm, Pitch 0.95mm, IPC Low Density)
pins: 1 GND (power) "Ground", 2 GND (power) "Ground", 3 HYST (in) "Hysteresis Input. Connect to VCC for 2degreesC of hysteresis or to GND for 10degreesC hysteresis.", 4 VCC (power) "Input Supply. Bypass to ground with a 0.1uF capacitor.", 5 TOVER (out) "Push-Pull Active-High Output (Hot Threshold). TOVER goes high when the die temperature exceeds the factory-programmed hot-temperature threshold."

## MAX6514UKP075+T
designator U?
Low-Cost, 2.7 to 5.5V Temperature Switch, -55 to 125 degC, 5-Pin SOT23 (U5+2), Pb-Free, Tape and Reel; Generic Part Number: MAX6514; PartNumber: MAX6514UKP075+T; Functions: Temperature Switch/Temperature Comparator; Interface: Logic; DatasheetVersion: Rev. 1; PackageVersion: Rev. G, 04/2011; PackageReference: U5+2; PackageDescription: 5-Pin Small-Outline Transistor Package, Body 1.625 x 2.9 mm, Pitch 0.95 mm; Supplier 1: Digi-Key; Supplier Part Number 1: MAX6514UKP075+T-ND; Supplier 2: Mouser; Supplier Part Number 2: 700-MAX6514UKP075T; Packing: Tape and Reel; Mounting Technology: Surface Mount; Code_JEDEC: MO178; ComponentLink1Description: Manufacturer URL; ComponentLink1URL: http://www.maximintegrated.com/; ComponentLink2Description: Datasheet; ComponentLink2URL: http://datasheets.maximintegrated.com/en/ds/MAX6514-MAX6515.pdf; ComponentLink3Description: Package Specification; ComponentLink3URL: http://pdfserv.maximintegrated.com/package_dwgs/21-0057.PDF
footprint MAXM-U5+2_N (SOT23, 5-Leads, Body 2.9x1.625mm, Pitch 0.95mm, IPC Medium Density)
footprint MAXM-U5+2_L (SOT23, 5-Leads, Body 2.9x1.625mm, Pitch 0.95mm, IPC High Density)
footprint MAXM-U5+2_M (SOT23, 5-Leads, Body 2.9x1.625mm, Pitch 0.95mm, IPC Low Density)
pins: 1 GND (power) "Ground", 2 GND (power) "Ground", 3 HYST (in) "Hysteresis Input. Connect to VCC for 2degreesC of hysteresis or to GND for 10degreesC hysteresis.", 4 VCC (power) "Input Supply. Bypass to ground with a 0.1uF capacitor.", 5 TOVER (out) "Push-Pull Active-High Output (Hot Threshold). TOVER goes high when the die temperature exceeds the factory-programmed hot-temperature threshold."

## MAX6514UKP085+T
designator U?
Low-Cost, 2.7 to 5.5V Temperature Switch, -55 to 125 degC, 5-Pin SOT23 (U5+2), Pb-Free, Tape and Reel; Generic Part Number: MAX6514; PartNumber: MAX6514UKP085+T; Functions: Temperature Switch/Temperature Comparator; Interface: Logic; DatasheetVersion: Rev. 1; PackageVersion: Rev. G, 04/2011; PackageReference: U5+2; PackageDescription: 5-Pin Small-Outline Transistor Package, Body 1.625 x 2.9 mm, Pitch 0.95 mm; Supplier 1: Digi-Key; Supplier Part Number 1: MAX6514UKP085+T-ND; Supplier 2: Mouser; Supplier Part Number 2: 700-MAX6514UKP085T; Packing: Tape and Reel; Mounting Technology: Surface Mount; Code_JEDEC: MO178; ComponentLink1Description: Manufacturer URL; ComponentLink1URL: http://www.maximintegrated.com/; ComponentLink2Description: Datasheet; ComponentLink2URL: http://datasheets.maximintegrated.com/en/ds/MAX6514-MAX6515.pdf; ComponentLink3Description: Package Specification; ComponentLink3URL: http://pdfserv.maximintegrated.com/package_dwgs/21-0057.PDF
footprint MAXM-U5+2_N (SOT23, 5-Leads, Body 2.9x1.625mm, Pitch 0.95mm, IPC Medium Density)
footprint MAXM-U5+2_L (SOT23, 5-Leads, Body 2.9x1.625mm, Pitch 0.95mm, IPC High Density)
footprint MAXM-U5+2_M (SOT23, 5-Leads, Body 2.9x1.625mm, Pitch 0.95mm, IPC Low Density)
pins: 1 GND (power) "Ground", 2 GND (power) "Ground", 3 HYST (in) "Hysteresis Input. Connect to VCC for 2degreesC of hysteresis or to GND for 10degreesC hysteresis.", 4 VCC (power) "Input Supply. Bypass to ground with a 0.1uF capacitor.", 5 TOVER (out) "Push-Pull Active-High Output (Hot Threshold). TOVER goes high when the die temperature exceeds the factory-programmed hot-temperature threshold."

## MAX6514UKP095+T
designator U?
Low-Cost, 2.7 to 5.5V Temperature Switch, -55 to 125 degC, 5-Pin SOT23 (U5+2), Pb-Free, Tape and Reel; Generic Part Number: MAX6514; PartNumber: MAX6514UKP095+T; Functions: Temperature Switch/Temperature Comparator; Interface: Logic; DatasheetVersion: Rev. 1; PackageVersion: Rev. G, 04/2011; PackageReference: U5+2; PackageDescription: 5-Pin Small-Outline Transistor Package, Body 1.625 x 2.9 mm, Pitch 0.95 mm; Supplier 1: Digi-Key; Supplier Part Number 1: MAX6514UKP095+T-ND; Supplier 2: Mouser; Supplier Part Number 2: 700-MAX6514UKP095T; Packing: Tape and Reel; Mounting Technology: Surface Mount; Code_JEDEC: MO178; ComponentLink1Description: Manufacturer URL; ComponentLink1URL: http://www.maximintegrated.com/; ComponentLink2Description: Datasheet; ComponentLink2URL: http://datasheets.maximintegrated.com/en/ds/MAX6514-MAX6515.pdf; ComponentLink3Description: Package Specification; ComponentLink3URL: http://pdfserv.maximintegrated.com/package_dwgs/21-0057.PDF
footprint MAXM-U5+2_N (SOT23, 5-Leads, Body 2.9x1.625mm, Pitch 0.95mm, IPC Medium Density)
footprint MAXM-U5+2_L (SOT23, 5-Leads, Body 2.9x1.625mm, Pitch 0.95mm, IPC High Density)
footprint MAXM-U5+2_M (SOT23, 5-Leads, Body 2.9x1.625mm, Pitch 0.95mm, IPC Low Density)
pins: 1 GND (power) "Ground", 2 GND (power) "Ground", 3 HYST (in) "Hysteresis Input. Connect to VCC for 2degreesC of hysteresis or to GND for 10degreesC hysteresis.", 4 VCC (power) "Input Supply. Bypass to ground with a 0.1uF capacitor.", 5 TOVER (out) "Push-Pull Active-High Output (Hot Threshold). TOVER goes high when the die temperature exceeds the factory-programmed hot-temperature threshold."